# EAGLE library part 643270100305 (library WR-CIRC)
WR-CIRCM12 Screw Mating Panel Connector PCB Angled 90° Metal M12 Kind Properties Gender Male Packaging Properties Packaging Tray Electrical Properties IR 2 A; 5 A Working Voltage 30 V; 60 V; 250 V Withstanding Voltage 650 V (AC); 1000 V (AC); 1400 V (AC) Contact Resistance Initial 10 mΩ RISO 100 MΩ General Information Durability 100 Mating cycles Ingress Protection Code IP68 Operating Temperature -40 up to +90 °C Material Properties Insulator Material PA66 Insulator Flammability Rating UL94 V-0 Insulator Color Black Contact Material Copper Alloy Contact Plating Gold <https://www.we-online.com/components/media/o722372v209%20family-wr-circm12-6432701003xx.jpg> Details see: www.we-online.com/en/components/products/WR-CIRCM12_PANEL_CONNECTOR_PCB_ANGLED_90_METAL_M12 Created by Ella 2023-11-30 2023 (C) Würth Elektronik
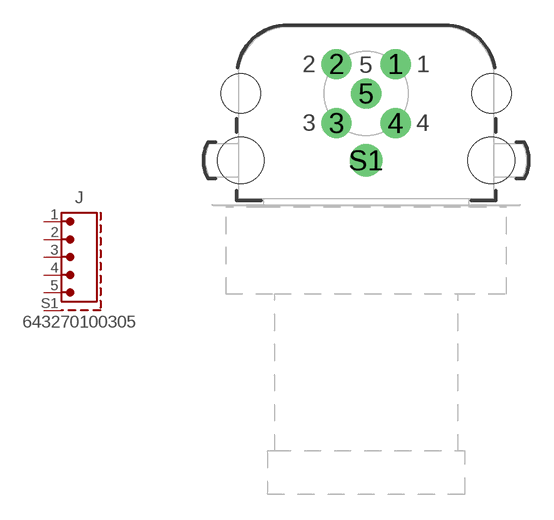
[diagram p12: symbol with the pads of 643270100305; footprint 643270100305]

Designator prefix J

## 643270100305 (DATASHEET-URL: https://www.we-online.com/redexpert/spec/643270100305?ae; GENDER: Male; MOUNT: THT; PART-NUMBER: 643270100305; POLARITY: 5; RATED-CURRENT: 5A; VALUE: 643270100305; WITHSTANDING-VOLTAGE: 1000V; WORKING-VOLTAGE: 60V)  [643270100305]
1  1  pas
2  2  pas
3  3  pas
4  4  pas
5  5  pas
S1  SHIELD  pas

## Footprint 643270100305 (pad centres in mm)
WR-CIRCM12 Screw Mating Panel Connector PCB Angled 90° Metal M12 THT, 5pins
drill 1.2: 1 1.768,1.768; 2 -1.768,1.768; 3 -1.768,-1.768; 4 1.768,-1.768; 5 0,0
drill 1.3: S1 0,-4
hole 2.35 at -7.5,0
hole 2.35 at 7.5,0
hole 2.8 at -7.5,-4
hole 2.8 at 7.5,-4